# Altium footprint library ASMBMTB10B3A2.PcbLib: 1 footprints
Each footprint in its own frame and in the unit in brackets; x right, y up, seen from the top. Pads: shape width x height; smd on the part's side, far side on the other; paste and mask are expansions set on the pad; w line width, h text height; cw(c..) or ccw(c..) is an arc to the next point about the centre after c.
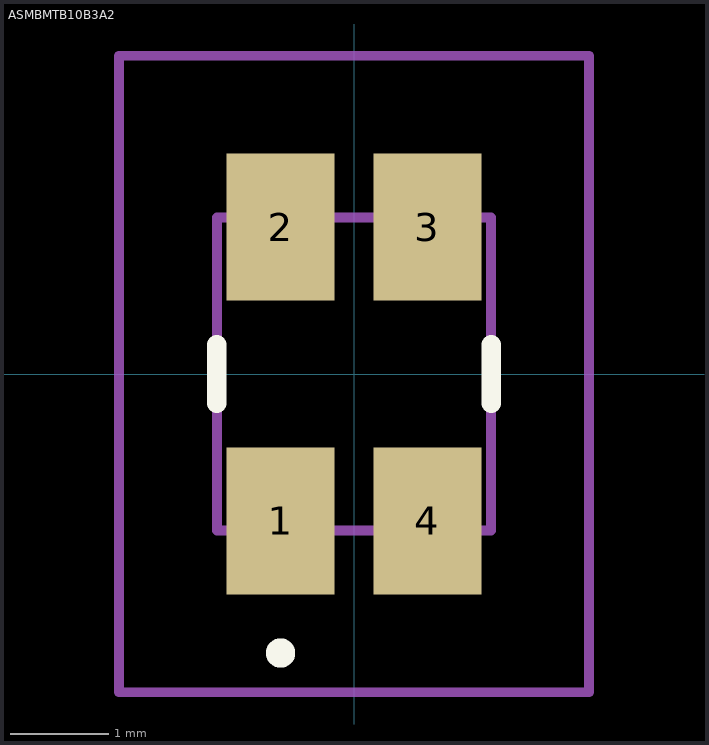
[diagram p0: the footprint, top view; thin cyan lines are the x and y axes]

## ASMBMTB10B3A2 [mm]
pads (4):
  rect 1.1x1.5 smd: 1(-0.75,-1.5) 2(-0.75,1.5) 3(0.75,1.5) 4(0.75,-1.5)
Top Overlay:
  lines w0.2: -1.4,-0.3 -1.4,0.3 ; 1.4,-0.3 1.4,0.3 ; -0.75,-2.9 -0.75,-2.9 ; -0.75,-2.9 ccw(c-0.75,-2.85) -0.75,-2.8 ; -0.75,-2.9 cw(c-0.75,-2.85) -0.75,-2.8 ; -0.75,-2.9 -0.75,-2.9 ; -0.75,-2.9 ccw(c-0.75,-2.85) -0.75,-2.8 ; -0.75,-2.8 -0.75,-2.8
Mechanical 15:
  lines w0.1: -1.4,-1.6 1.4,-1.6 1.4,1.6 -1.4,1.6 -1.4,-1.6
Mechanical 20:
  lines w0.1: -2.4,-3.25 2.4,-3.25 2.4,3.25 -2.4,3.25 -2.4,-3.25